# Altium footprint library SparkFun-Electromechanical.PCBLIB: 151 footprints (part 10 of 11)
Each footprint in its own frame and in the unit in brackets; x right, y up, seen from the top. Pads: shape width x height; smd on the part's side, far side on the other; paste and mask are expansions set on the pad; w line width, h text height; cw(c..) or ccw(c..) is an arc to the next point about the centre after c.
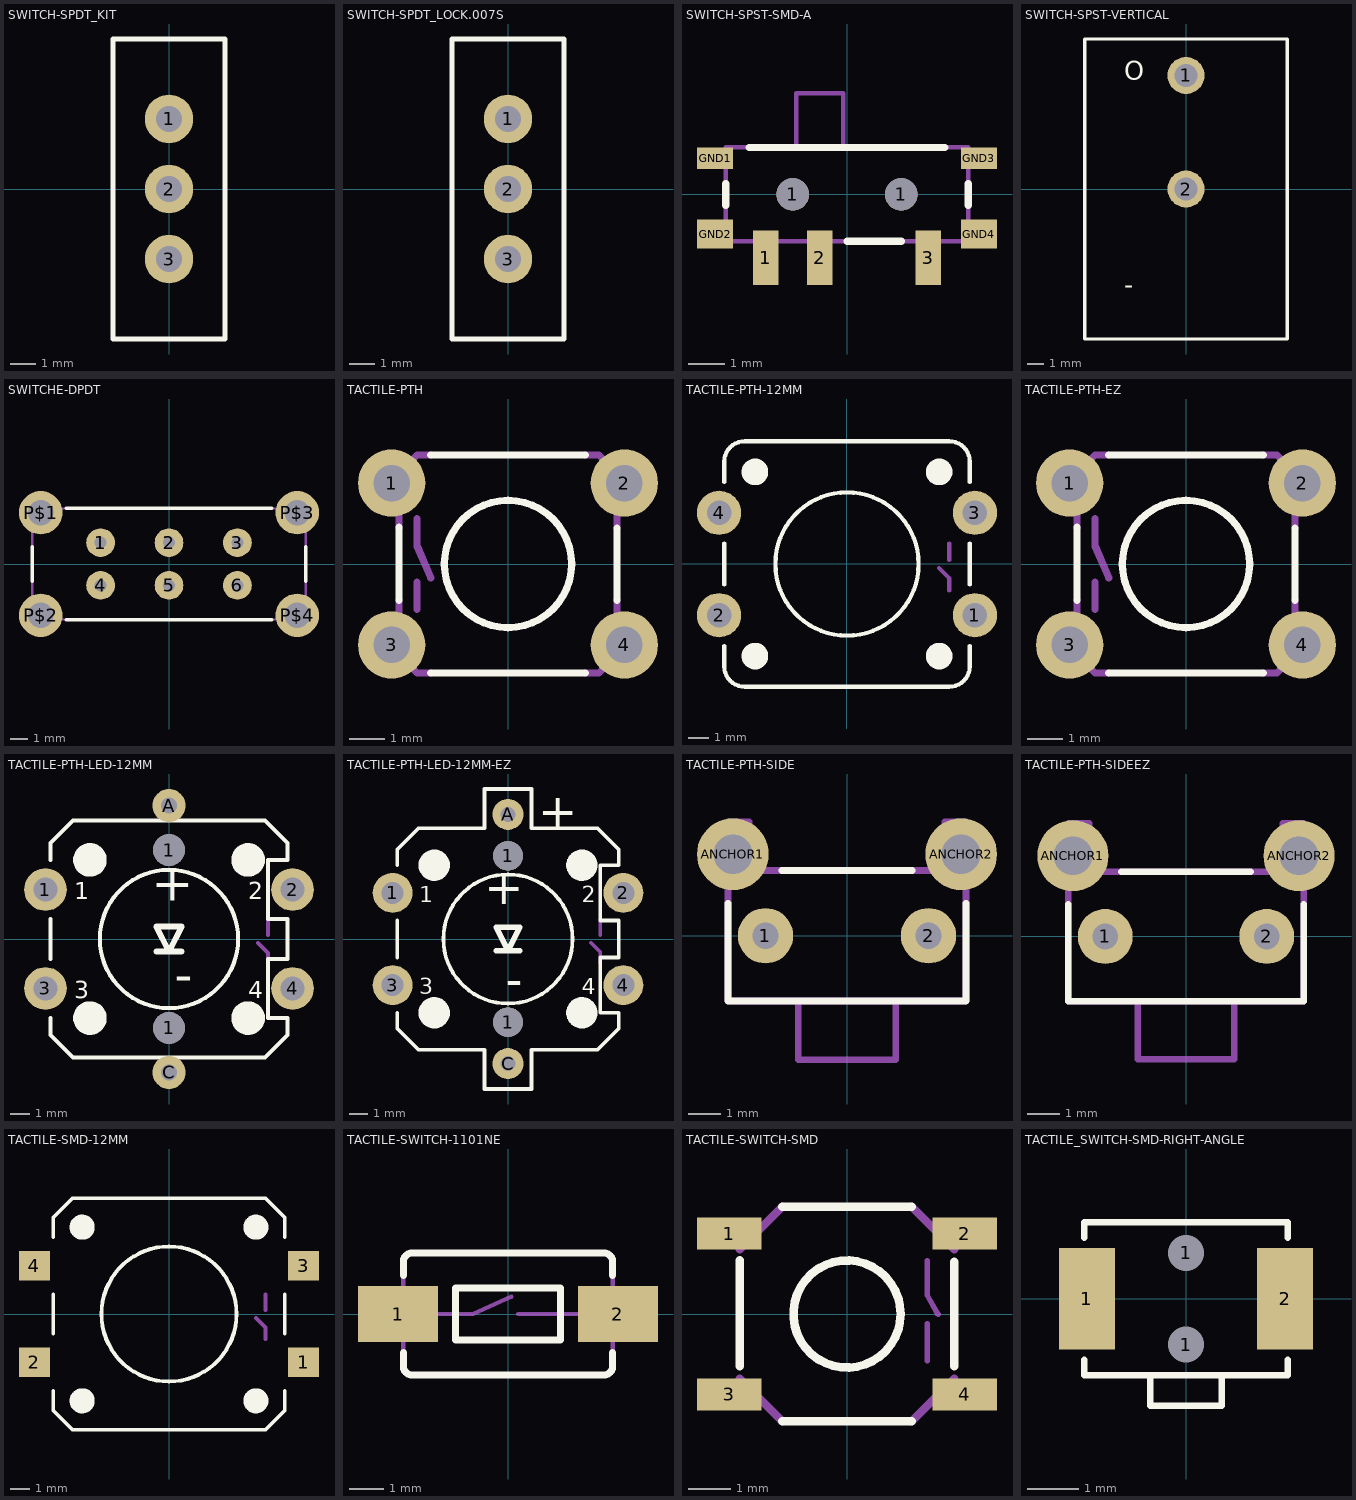
[diagram p9: the footprints below, top view; thin cyan lines are the x and y axes]

## SWITCH-SPDT_KIT [mil]
pads (3):
  round 74 hole 40: 1(0,107) 2(0,0) 3(0,-107)
Top Overlay:
  lines w8: -85.63,-228.94 -85.63,228.94 85.63,228.94 85.63,-228.94 -85.63,-228.94
Top Solder:
  region: 0,0 10,0 10,10 0,10
  region: 0,0 10,0 10,10 0,10
  region: 0,0 10,0 10,10 0,10
Bottom Solder:
  region: 0,0 10,0 10,10 0,10
  region: 0,0 10,0 10,10 0,10
  region: 0,0 10,0 10,10 0,10
Mechanical 16:
  rectangle: -9,-12 9,12
  rectangle: -9,88 9,112
  rectangle: -9,-112 9,-88

## SWITCH-SPDT_LOCK.007S [mil]
pads (3):
  round 74 hole 40: 1(0,107) 2(0,0) 3(0,-107)
Top Overlay:
  lines w8: -85.63,-228.94 -85.63,228.94 85.63,228.94 85.63,-228.94 -85.63,-228.94
Mechanical 16:
  rectangle: -9,-12 9,12
  rectangle: -9,88 9,112
  rectangle: -9,-112 9,-88

## SWITCH-SPST-SMD-A [mm]
pads (9):
  rect 0.7x1.5 smd: 1(-2.25,-1.75) 2(-0.75,-1.75) 3(2.25,-1.75)
  round 0.9 hole 0.9: 1(-1.5,0) 1(1.5,0)
  rect 1x0.6 smd: GND1(-3.65,1) GND3(3.65,1)
  rect 1x0.8 smd: GND2(-3.65,-1.1) GND4(3.65,-1.1)
Top Overlay:
  lines w0.203: -3.35,-0.3 -3.35,0.3 ; -2.7,1.3 2.7,1.3 ; 0,-1.3 1.5,-1.3 ; 3.35,-0.3 3.35,0.3
Mechanical 16:
  lines w0.127: -1.4,1.3 -0.1,1.3 ; -1.4,1.3 -3.35,1.3 -3.35,-1.3 3.35,-1.3 3.35,1.3 -0.1,1.3 ; -1.4,1.3 -1.4,2.8 -0.1,2.8 -0.1,1.3

## SWITCH-SPST-VERTICAL [mil]
pads (2):
  round 90 hole 55.12: 1(0,275.59) 2(0,0)
Top Overlay:
  lines w8: -246.06,-364.17 246.06,-364.17 246.06,364.17 -246.06,364.17 -246.06,-364.17
  text "-" at -150,-270 h77.5
  text "O" at -150,250 h77.5
Mechanical 13:
  text "EG2578" at -150,-500 h77.5

## SWITCHE-DPDT [mil]
pads (10):
  round 66 hole 27.56: 1(-157.48,49.21) 2(0,49.21) 3(157.48,49.21) 4(-157.48,-49.21) 5(0,-49.21) 6(157.48,-49.21)
  round 100 hole 59.06: P$1(-295.28,118.11) P$2(-295.28,-118.11) P$3(295.28,118.11) P$4(295.28,-118.11)
Top Overlay:
  lines w8: -314.96,-39.37 -314.96,39.37 ; -236.22,-127.95 236.22,-127.95 ; -236.22,127.95 236.22,127.95 ; 314.96,-39.37 314.96,39.37
Mechanical 16:
  lines w5: -314.96,-127.95 -314.96,127.95 314.96,127.95 314.96,-127.95 -314.96,-127.95

## TACTILE-PTH [mil]
pads (4):
  round 74 hole 40: 1(-128,89) 2(128,89) 3(-128,-89) 4(128,-89)
Top Overlay:
  circle w8: c0,0 r70
  lines w8: -120,-40 -120,40.47 ; -85,-120 85,-120 ; -85,120 85,120 ; 120,-40 120,39.29
Mechanical 16:
  lines w8: -120,-40 -120,-100 -100,-120 -85,-120 ; -120,40 -120,100 -100,120 -85,120 ; -100,-50 -100,-20 ; -100,50 -100,20 -85,-15 ; 85,-120 100,-120 120,-100 120,-40 ; 85,120 100,120 120,100 120,40

## TACTILE-PTH-12MM [mil]
pads (4):
  round 85 hole 47.24: 1(246.06,-98.43) 2(-246.06,-98.43) 3(246.06,98.43) 4(-246.06,98.43)
Top Overlay:
  circle w8: c0,0 r137.8
  circle w27.56: c-177.17,177.17 r11.81
  circle w27.56: c177.17,177.17 r11.81
  circle w27.56: c177.17,-177.17 r11.81
  circle w27.56: c-177.17,-177.17 r11.81
  lines w8: -236.22,-157.48 -236.22,-196.85 ccw(c-196.85,-196.85) -196.85,-236.22 196.85,-236.22 ccw(c196.85,-196.85) 236.22,-196.85 236.22,-157.48 ; -236.22,-39.37 -236.22,39.37 ; -236.22,157.48 -236.22,196.85 cw(c-196.85,196.85) -196.85,236.22 196.85,236.22 cw(c196.85,196.85) 236.22,196.85 236.22,157.48 ; 236.22,-39.37 236.22,39.37
Mechanical 16:
  lines w8: 177.17,-7.87 196.85,-27.56 196.85,-51.18 ; 196.85,7.87 196.85,39.37

## TACTILE-PTH-EZ [mil]
pads (4):
  round 74 hole 40: 1(-128,89) 2(128,89) 3(-128,-89) 4(128,-89)
Top Overlay:
  circle w8: c0,0 r70
  lines w8: -120,-40 -120,40.47 ; -85,-120 85,-120 ; -85,120 85,120 ; 120,-40 120,39.29
Top Solder:
  region: 0,0 10,0 10,10 0,10
  region: 0,0 10,0 10,10 0,10
  region: 0,0 10,0 10,10 0,10
  region: 0,0 10,0 10,10 0,10
Bottom Solder:
  region: 0,0 10,0 10,10 0,10
  region: 0,0 10,0 10,10 0,10
  region: 0,0 10,0 10,10 0,10
  region: 0,0 10,0 10,10 0,10
Mechanical 16:
  lines w8: -120,-40 -120,-100 -100,-120 -85,-120 ; -120,40 -120,100 -100,120 -85,120 ; -100,-50 -100,-20 ; -100,50 -100,20 -85,-15 ; 85,-120 100,-120 120,-100 120,-40 ; 85,120 100,120 120,100 120,40

## TACTILE-PTH-LED-12MM [mil]
pads (8):
  round 85 hole 47.24: 1(-246.06,98.43) 2(246.06,98.43) 3(-246.06,-98.43) 4(246.06,-98.43)
  round 62.99 hole 62.99: 1(0,-177.17) 1(0,177.17)
  round 66 hole 31.5: A(0,265.75) C(0,-265.75)
Top Overlay:
  circle w8: c0,0 r137.8
  circle w35.43: c-157.48,157.48 r15.75
  circle w35.43: c157.48,157.48 r15.75
  circle w35.43: c157.48,-157.48 r15.75
  circle w35.43: c-157.48,-157.48 r15.75
  lines w8: -236.22,-157.48 -236.22,-190.94 -190.94,-236.22 190.94,-236.22 236.22,-190.94 236.22,-157.48 196.85,-157.48 196.85,-39.37 236.22,-39.37 236.22,39.37 196.85,39.37 196.85,157.48 236.22,157.48 236.22,190.94 190.94,236.22 -190.94,236.22 -236.22,190.94 -236.22,157.48 ; -236.22,-39.37 -236.22,39.37
  lines w12: -25,-25 0,-25 ; 25,-25 0,-25 ; 0,-25 -25,25 0,25 25,25 0,-25
  text "1" at -188.98,78.74 h34
  text "2" at 157.48,78.74 h34
  text "3" at -188.98,-118.11 h34
  text "4" at 157.48,-118.11 h34
  text "+" at 49.5,138 h73.1
  text "-" at 47.5,-51 h73.1
Mechanical 16:
  lines w8: 177.17,-7.87 196.85,-27.56 196.85,-51.18 ; 196.85,7.87 196.85,39.37

## TACTILE-PTH-LED-12MM-EZ [mil]
pads (8):
  round 85 hole 47.24: 1(-246.06,98.43) 2(246.06,98.43) 3(-246.06,-98.43) 4(246.06,-98.43)
  round 62.99 hole 62.99: 1(0,-177.17) 1(0,177.17)
  round 66 hole 31.5: A(0,265.75) C(0,-265.75)
Top Overlay:
  circle w8: c0,0 r137.8
  circle w35.43: c-157.48,157.48 r15.75
  circle w35.43: c157.48,157.48 r15.75
  circle w35.43: c157.48,-157.48 r15.75
  circle w35.43: c-157.48,-157.48 r15.75
  lines w8: -236.22,-157.48 -236.22,-190.94 -190.94,-236.22 -50,-236.22 -50,-320 50,-320 50,-236.22 190.94,-236.22 236.22,-190.94 236.22,-157.48 196.85,-157.48 196.85,-39.37 236.22,-39.37 236.22,39.37 196.85,39.37 196.85,157.48 236.22,157.48 236.22,190.94 190.94,236.22 50,236.22 50,320 -50,320 -50,236.22 -190.94,236.22 -236.22,190.94 -236.22,157.48 ; -236.22,-39.37 -236.22,39.37
  lines w12: -25,-25 0,-25 ; 25,-25 0,-25 ; 0,-25 -25,25 25,25 0,-25
  text "1" at -188.98,78.74 h34
  text "2" at 157.48,78.74 h34
  text "3" at -188.98,-118.11 h34
  text "4" at 157.48,-118.11 h34
  text "+" at 33.75,138 h73.1
  text "-" at 31.75,-66.75 h73.1
  text "+" at 64.67,236.02 h73.1
Top Solder:
  region: 0,0 10,0 10,10 0,10
  region: 0,0 10,0 10,10 0,10
  region: 0,0 10,0 10,10 0,10
  region: 0,0 10,0 10,10 0,10
  region: 0,0 10,0 10,10 0,10
  region: 0,0 10,0 10,10 0,10
Bottom Solder:
  region: 0,0 10,0 10,10 0,10
  region: 0,0 10,0 10,10 0,10
  region: 0,0 10,0 10,10 0,10
  region: 0,0 10,0 10,10 0,10
  region: 0,0 10,0 10,10 0,10
  region: 0,0 10,0 10,10 0,10
Mechanical 16:
  lines w8: 177.17,-7.87 196.85,-27.56 196.85,-51.18 ; 196.85,7.87 196.85,39.37

## TACTILE-PTH-SIDE [mil]
pads (4):
  round 66.93 hole 31.5: 1(-98.43,0) 2(98.43,0)
  round 86.61 hole 47.24: ANCHOR1(-137.8,98.43) ANCHOR2(137.8,98.43)
Top Overlay:
  lines w8: -143.7,39.37 -143.7,-78.74 143.7,-78.74 143.7,39.37 ; -78.74,78.74 78.74,78.74
Mechanical 16:
  lines w8: -59.06,-78.74 -143.7,-78.74 -143.7,137.8 -118.11,137.8 -118.11,78.74 118.11,78.74 118.11,137.8 143.7,137.8 143.7,-78.74 59.06,-78.74 ; -59.06,-78.74 59.06,-78.74 ; -59.06,-78.74 -59.06,-149.61 59.06,-149.61 59.06,-78.74

## TACTILE-PTH-SIDEEZ [mil]
pads (4):
  round 66.93 hole 31.5: 1(-98.43,0) 2(98.43,0)
  round 86.61 hole 47.24: ANCHOR1(-137.8,98.43) ANCHOR2(137.8,98.43)
Top Overlay:
  lines w8: -143.7,39.37 -143.7,-78.74 143.7,-78.74 143.7,39.37 ; -78.74,78.74 78.74,78.74
Top Solder:
  circle w0: c98.43,0 r17.5
  circle w0: c-98.43,0 r17.5
  circle w0: c-137.8,98.43 r25
  circle w0: c137.8,98.43 r25
Bottom Solder:
  circle w0: c-137.8,98.43 r45
  circle w0: c98.43,0 r35
  circle w0: c-98.43,0 r35
  circle w0: c137.8,98.43 r45
Mechanical 16:
  lines w8: -59.06,-78.74 -143.7,-78.74 -143.7,137.8 -118.11,137.8 -118.11,78.74 118.11,78.74 118.11,137.8 143.7,137.8 143.7,-78.74 59.06,-78.74 ; -59.06,-78.74 59.06,-78.74 ; -59.06,-78.74 -59.06,-149.61 59.06,-149.61 59.06,-78.74

## TACTILE-SMD-12MM [mil]
pads (4):
  rect 62.99x61.02 smd: 1(274.61,-98.43) 2(-274.61,-98.43) 3(274.61,98.43) 4(-274.61,98.43)
Top Overlay:
  circle w8: c0,0 r137.8
  circle w27.56: c-177.17,177.17 r11.81
  circle w27.56: c177.17,177.17 r11.81
  circle w27.56: c177.17,-177.17 r11.81
  circle w27.56: c-177.17,-177.17 r11.81
  lines w8: -236.22,-157.48 -236.22,-196.85 -196.85,-236.22 196.85,-236.22 236.22,-196.85 236.22,-157.48 ; -236.22,-39.37 -236.22,39.37 ; -236.22,157.48 -236.22,196.85 -196.85,236.22 196.85,236.22 236.22,196.85 236.22,157.48 ; 236.22,-39.37 236.22,39.37
Mechanical 16:
  lines w8: 177.17,-7.87 196.85,-27.56 196.85,-51.18 ; 196.85,7.87 196.85,39.37

## TACTILE-SWITCH-1101NE [mil]
pads (2):
  rect 90.55x62.99 smd: 1(-124.02,0) 2(124.02,0)
Top Overlay:
  lines w8: -118.11,-43.31 -118.11,-59.06 ccw(c-108.27,-59.06) -108.27,-68.9 108.27,-68.9 ccw(c108.27,-59.06) 118.11,-59.06 118.11,-43.31 ; -118.11,43.31 -118.11,59.06 cw(c-108.27,59.06) -108.27,68.9 108.27,68.9 cw(c108.27,59.06) 118.11,59.06 118.11,43.31 ; -59.06,-29.53 59.06,-29.53 59.06,29.53 -59.06,29.53 -59.06,-29.53
Mechanical 16:
  lines w5: -118.11,-43.31 -118.11,43.31 ; -78.74,0 -39.37,0 3.94,19.69 ; 11.81,0 78.74,0 ; 118.11,-43.31 118.11,43.31

## TACTILE-SWITCH-SMD [mil]
pads (4):
  rect 60x30 smd: 1(-110,75) 2(110,75) 3(-110,-75) 4(110,-75)
Top Overlay:
  circle w8: c0,0 r50
  lines w8: -100,-48.82 -100,50 ; -60.63,-100 60.63,-100 ; -60.63,100 60.63,100 ; 100,-48.82 100,48.82
Mechanical 16:
  lines w5: 75,-43.9 75,-9.06 ; 75,50 75,17.52 85.04,-0.39
  lines w8: -100,-60.63 -60.63,-100 ; -100,60.63 -60.63,100 ; 60.63,-100 100,-60.63 ; 60.63,100 100,60.63

## TACTILE_SWITCH-SMD-RIGHT-ANGLE [mm]
pads (4):
  rect 1.1x2 smd: 1(-1.95,0) 2(1.95,0)
  round 0.7 hole 0.7: 1(0,-0.9) 1(0,0.9)
Top Overlay:
  lines w0.127: -2,-1.2 -2,-1.5 -0.7,-1.5 ; -2,1.2 -2,1.5 2,1.5 2,1.2 ; 2,-1.2 2,-1.5 0.7,-1.5 ; -0.7,-1.5 0.7,-1.5 ; -0.7,-1.5 -0.7,-2.1 0.7,-2.1 0.7,-1.5